# Altium footprint library NX3225GD8MHZSTDCRA3.PcbLib: 1 footprints
Each footprint in its own frame and in the unit in brackets; x right, y up, seen from the top. Pads: shape width x height; smd on the part's side, far side on the other; paste and mask are expansions set on the pad; w line width, h text height; cw(c..) or ccw(c..) is an arc to the next point about the centre after c.
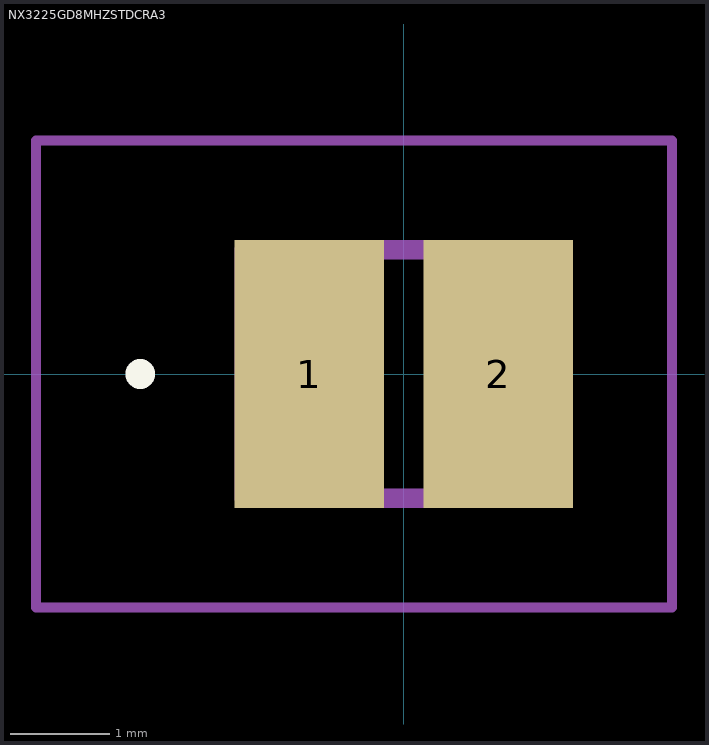
[diagram p0: the footprint, top view; thin cyan lines are the x and y axes]

## NX3225GD8MHZSTDCRA3 [mm]
pads (2):
  rect 1.5x2.7 smd: 1(-0.95,0) 2(0.95,0)
Top Overlay:
  lines w0.2: -2.7,0 -2.7,0 ; -2.7,0 ccw(c-2.65,0) -2.6,0 ; -2.7,0 cw(c-2.65,0) -2.6,0 ; -2.7,0 -2.7,0 ; -2.7,0 ccw(c-2.65,0) -2.6,0 ; -2.6,0 -2.6,0
Mechanical 15:
  lines w0.2: -1.6,-1.25 1.6,-1.25 1.6,1.25 -1.6,1.25 -1.6,-1.25
Mechanical 20:
  lines w0.1: -3.7,-2.35 2.7,-2.35 2.7,2.35 -3.7,2.35 -3.7,-2.35